# EAGLE library part FI-RE51S-HF (library con-jae)
HEADER, LVDS, R/A, 0.5MM, 51WAY
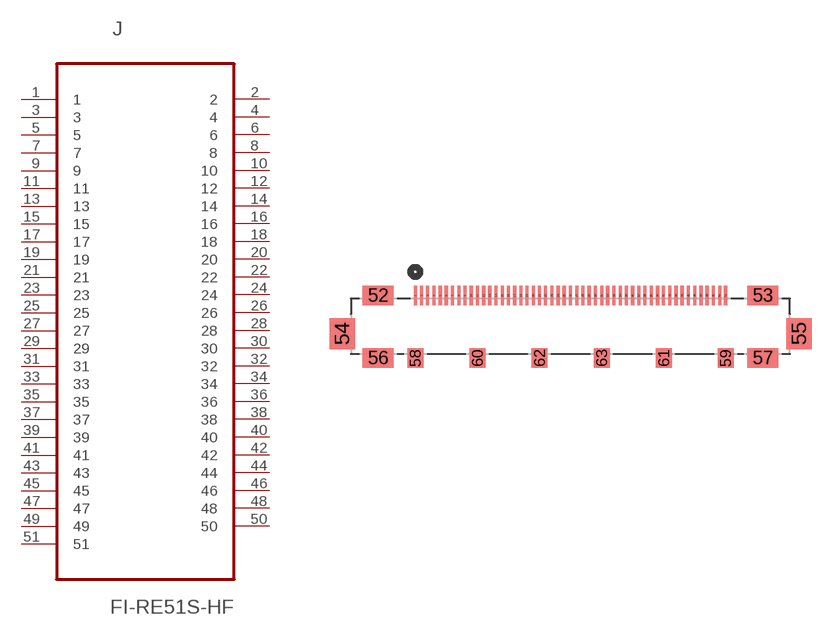
[diagram p8: symbol with the pads of JAE_FI-RE51S-HF; footprint JAE_FI-RE51S-HF]

Designator prefix J

## FI-RE51S-HF (DATASHEETLINK: http://www.jae.com/z-en/pdf_download_exec.cfm?param=SJ102934.pdf; DESCRIPTION: HEADER, LVDS, R/A, 0.5MM, 51WAY; MPN: FI-RE51S-HF; OC_FARNELL: 1519729; OC_NEWARK: 74M1139; ROHS: Yes; SUPPLIER: JAE)  [JAE_FI-RE51S-HF]
1  1  pas
2  2  pas
3  3  pas
4  4  pas
5  5  pas
6  6  pas
7  7  pas
8  8  pas
9  9  pas
10  10  pas
11  11  pas
12  12  pas
13  13  pas
14  14  pas
15  15  pas
16  16  pas
17  17  pas
18  18  pas
19  19  pas
20  20  pas
21  21  pas
22  22  pas
23  23  pas
24  24  pas
25  25  pas
26  26  pas
27  27  pas
28  28  pas
29  29  pas
30  30  pas
31  31  pas
32  32  pas
33  33  pas
34  34  pas
35  35  pas
36  36  pas
37  37  pas
38  38  pas
39  39  pas
40  40  pas
41  41  pas
42  42  pas
43  43  pas
44  44  pas
45  45  pas
46  46  pas
47  47  pas
48  48  pas
49  49  pas
50  50  pas
51  51  pas

## Footprint JAE_FI-RE51S-HF (pad centres in mm)
smd 0.254 x 1.549: 1 0,0; 2 0.508,0; 3 0.991,0; 4 1.499,0; 5 2.007,0; 6 2.489,0; 7 2.997,0; 8 3.505,0; 9 3.988,0; 10 4.496,0; 11 5.004,0; 12 5.512,0; 13 5.994,0; 14 6.502,0; 15 7.01,0; 16 7.493,0; 17 8.001,0; 18 8.509,0; 19 8.992,0; 20 9.5,0; 21 10.008,0; 22 10.49,0; 23 10.998,0; 24 11.506,0; 25 11.989,0; 26 12.497,0; 27 13.005,0; 28 13.487,0; 29 13.995,0; 30 14.503,0; 31 15.011,0; 32 15.494,0; 33 16.002,0; 34 16.51,0; 35 16.993,0; 36 17.501,0; 37 18.009,0; 38 18.491,0; 39 18.999,0; 40 19.507,0; 41 19.99,0; 42 20.498,0; 43 21.006,0; 44 21.488,0; 45 21.996,0; 46 22.504,0; 47 23.012,0; 48 23.495,0; 49 24.003,0; 50 24.511,0; 51 24.994,0
smd 2.489 x 1.549: 52 -2.997,0; 53 27.991,0; 56 -2.997,-5.029; 57 27.991,-5.029
smd 2.057 x 2.489: 54 -5.893,-3.073; 55 30.912,-3.073
smd 1.295 x 1.549: 58 0,-5.029; 59 24.994,-5.029; 60 5.004,-5.029; 61 20.015,-5.029; 62 10.008,-5.029; 63 15.011,-5.029